# Altium schematic symbol library 3631AH.SchLib: 1 symbol
Pins are listed as number, name and electrical type; pins without a type are passive.

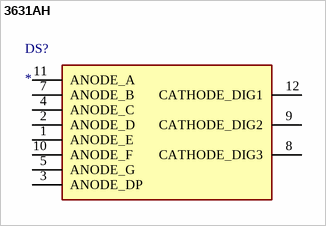
[diagram p0: symbol 3631AH]

## 3631AH
designator DS?
Display; Manufacturer_Name: Adafruit; Manufacturer_Part_Number: 812; Datasheet Link: https://cdn-shop.adafruit.com/datasheets/812datasheet.pdf; Height: 8.25mm; Arrow Part Number: 812; Arrow Price/Stock: https://www.arrow.com/en/products/812/adafruit-industries; Mouser Part Number: 485-812; Mouser Price/Stock: https://www.mouser.co.uk/ProductDetail/Adafruit/812?qs=GURawfaeGuCPkScXckREmw%3D%3D
footprint 3631AH (display de 7 seg de 3 digitos)
pins: 1 ANODE_E, 2 ANODE_D, 3 ANODE_DP, 4 ANODE_C, 5 ANODE_G, 7 ANODE_B, 8 CATHODE_DIG3, 9 CATHODE_DIG2, 10 ANODE_F, 11 ANODE_A, 12 CATHODE_DIG1